# EAGLE library part PINHEAD-5MM-1X6 (library parts)
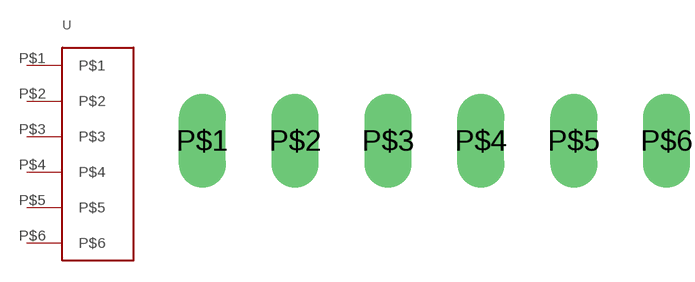
[diagram p3: symbol with the pads of 5MM-HEADER-6; footprint 5MM-HEADER-6]

Designator prefix -

## PINHEAD-5MM-1X6  [5MM-HEADER-6]
P$1  P$1
P$2  P$2
P$3  P$3
P$4  P$4
P$5  P$5
P$6  P$6

## Footprint 5MM-HEADER-6 (pad centres in mm)
drill 0.8 pad 2.54 long: P$1 -12.5,0; P$2 -7.5,0; P$3 -2.5,0; P$4 2.5,0; P$5 7.5,0; P$6 12.5,0